# Altium footprint library RESC320X75X183L48N.PcbLib: 1 footprints
Each footprint in its own frame and in the unit in brackets; x right, y up, seen from the top. Pads: shape width x height; smd on the part's side, far side on the other; paste and mask are expansions set on the pad; w line width, h text height; cw(c..) or ccw(c..) is an arc to the next point about the centre after c.
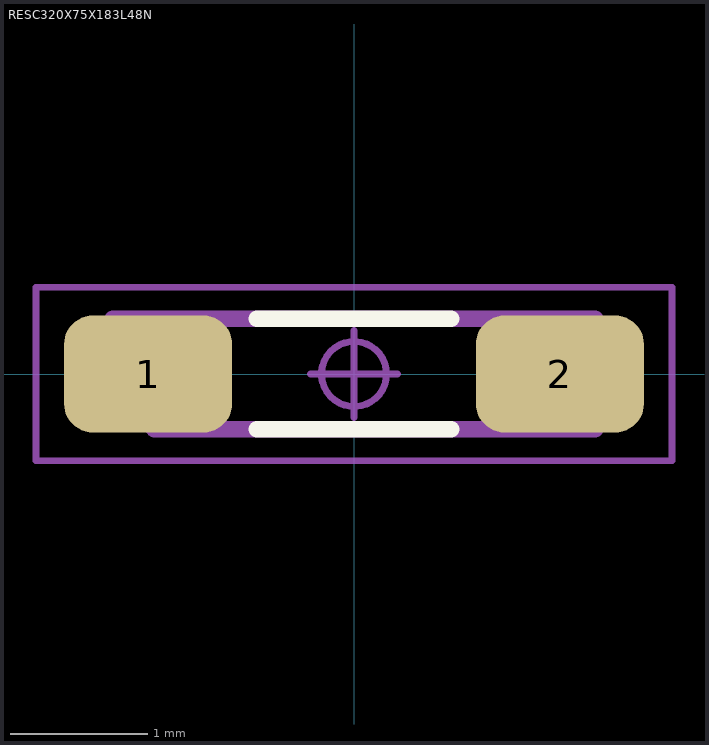
[diagram p0: the footprint, top view; thin cyan lines are the x and y axes]

## RESC320X75X183L48N [mm] "Resistor, Chip; 3.20 mm L X 0.75 mm W X 1.83 mm H body"
height 1.83
pads (2):
  rrect49% 1.22x0.85 smd: 1(-1.495,0) 2(1.495,0)
Top Overlay:
  lines w0.12: -0.705,-0.4 0.705,-0.4 ; -0.705,0.4 0.705,0.4
Mechanical 3:
  lines w0.12: -1.75,-0.1 -1.75,0.4 1.75,0.4 1.75,-0.4 -1.45,-0.4 -1.75,-0.1
Mechanical 5:
  lines w0.025: -1.6,-0.375 1.6,-0.375 ; -1.6,-0.375 -1.6,0.375 ; -1.6,-0.375 -1.6,0.375 ; -1.6,-0.375 -1.12,-0.375 -1.12,0.375 -1.6,0.375 ; -1.6,0.375 1.6,0.375 ; 1.6,-0.375 1.6,0.375 ; 1.6,-0.375 1.12,-0.375 1.12,0.375 1.6,0.375 ; 1.6,-0.375 1.6,0.375
Mechanical 7:
  circle w0.05: c0,0 r0.236
  lines w0.05: -0.315,0 0.315,0 ; 0,-0.315 0,0.315 ; -2.31,-0.63 2.31,-0.63 2.31,0.63 -2.31,0.63 -2.31,-0.63
Mechanical 9:
  text "'.Designator'" at -5.655,-0.204 h1
3D body: height 2, standoff 0.05, extent -2.325,-0.675 2.3,0.625
3D body "RESC320X75X183L48.STEP": height 1.83, standoff 0, extent -1.6,-0.375 1.6,0.375
3D body: height 1.04, standoff 0, extent -2.31,-0.63 2.31,0.63